# Altium schematic symbol library OpenMEA.SchLib: 2 symbols
Pins are listed as number, name and electrical type; pins without a type are passive.

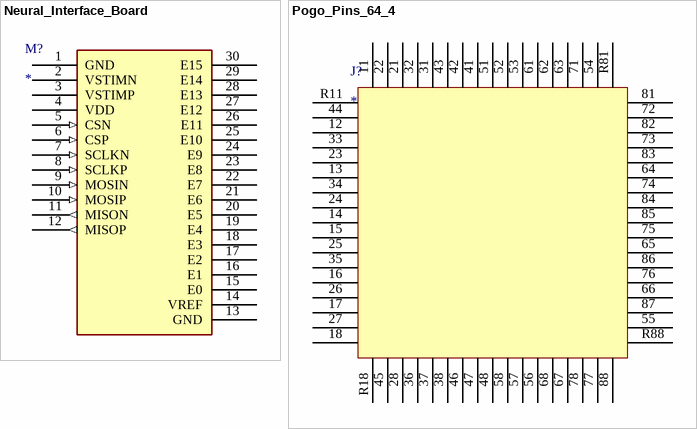
[diagram p0: symbols Neural_Interface_Board to Pogo_Pins_64_4]

## Neural_Interface_Board
designator M?  (no BOM)
footprint Neural_Interface_Board
pins: 1 GND (power), 2 VSTIMN (power), 3 VSTIMP (power), 4 VDD (power), 5 CSN (in), 6 CSP (in), 7 SCLKN (in), 8 SCLKP (in), 9 MOSIN (in), 10 MOSIP (in), 11 MISON (out), 12 MISOP (out), 13 GND (power), 14 VREF, 15 E0, 16 E1, 17 E2, 18 E3, 19 E4, 20 E5, 21 E6, 22 E7, 23 E8, 24 E9, 25 E10, 26 E11, 27 E12, 28 E13, 29 E14, 30 E15

## Pogo_Pins_64_4
designator J?
Pogo pins, 64 recording electrodes, 4 reference electrodes
footprint Pogo_Pins_64_4
pins: 11, 12, 13, 14, 15, 16, 17, 18, 21, 22, 23, 24, 25, 26, 27, 28, 31, 32, 33, 34, 35, 36, 37, 38, 41, 42, 43, 44, 45, 46, 47, 48, 51, 52, 53, 54, 55, 56, 57, 58, 61, 62, 63, 64, 65, 66, 67, 68, 71, 72, 73, 74, 75, 76, 77, 78, 81, 82, 83, 84, 85, 86, 87, 88, R11, R18, R81, R88